# Altium schematic symbol library ESP-01.SchLib: 1 symbol
Pins are listed as number, name and electrical type; pins without a type are passive.

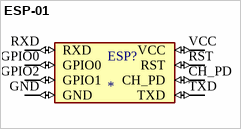
[diagram p0: symbol ESP-01]

## ESP-01
designator ESP?
MF: {'manufacturer': u'AI-Thinker'}; MP: ESP-01; Package: None; Price: None; Value: *; Availability: Unavailable
footprint ESP-01
pins: CH_PD (io), GND (io), GPIO0 (io), GPIO2 GPIO1 (io), RST (io), RXD (io), TXD (io), VCC (io)